# EAGLE library part 74C923 (library oldchips2)
20-key Encoder Fairchild MM74C923
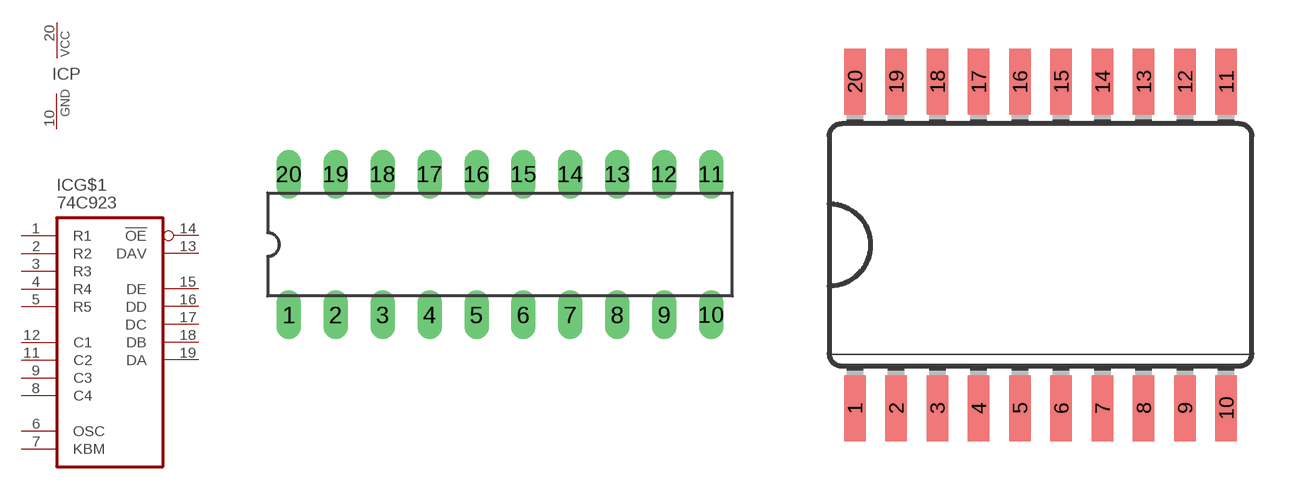
[diagram p0: symbol with the pads of DIL20; footprints DIL20, SO20W]

Designator prefix IC; gates G$1=74C923 P=PWRN

## 74C923N  [DIL20]
1  G$1:R1  in
2  G$1:R2  in
3  G$1:R3  in
4  G$1:R4  in
5  G$1:R5  in
6  G$1:OSC  in
7  G$1:KBM  pas
8  G$1:C4  out
9  G$1:C3  out
10  P:GND  pwr
11  G$1:C2  out
12  G$1:C1  out
13  G$1:DAV  out
14  G$1:!OE  in
15  G$1:DE  hiz
16  G$1:DD  hiz
17  G$1:DC  hiz
18  G$1:DB  hiz
19  G$1:DA  hiz
20  P:VCC  pwr

## 74C923W  [SO20W]
Pads as for DIL20

## Footprint DIL20 (pad centres in mm)
Dual In Line
drill 0.813 long: 1 -11.43,-3.81; 2 -8.89,-3.81; 3 -6.35,-3.81; 4 -3.81,-3.81; 5 -1.27,-3.81; 6 1.27,-3.81; 7 3.81,-3.81; 8 6.35,-3.81; 9 8.89,-3.81; 10 11.43,-3.81; 11 11.43,3.81; 12 8.89,3.81; 13 6.35,3.81; 14 3.81,3.81; 15 1.27,3.81; 16 -1.27,3.81; 17 -3.81,3.81; 18 -6.35,3.81; 19 -8.89,3.81; 20 -11.43,3.81

## Footprint SO20W (pad centres in mm)
Wide Small Outline package 300 mil
smd 0.66 x 2.032: 1 -5.715,-5.029; 2 -4.445,-5.029; 3 -3.175,-5.029; 4 -1.905,-5.029; 5 -0.635,-5.029; 6 0.635,-5.029; 7 1.905,-5.029; 8 3.175,-5.029; 9 4.445,-5.029; 10 5.715,-5.029; 11 5.715,5.029; 12 4.445,5.029; 13 3.175,5.029; 14 1.905,5.029; 15 0.635,5.029; 16 -0.635,5.029; 17 -1.905,5.029; 18 -3.175,5.029; 19 -4.445,5.029; 20 -5.715,5.029